# EAGLE library part HRS-6PIN (library custom)
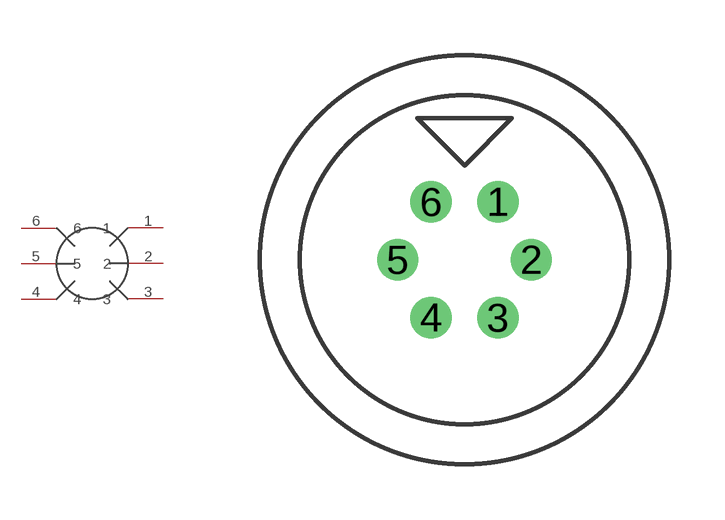
[diagram p2: symbol with the pads of HR10A-7R-6P; footprint HR10A-7R-6P]

Designator prefix -

## HRS-6PIN  [HR10A-7R-6P]
1  1
2  2
3  3
4  4
5  5
6  6

## Footprint HR10A-7R-6P (pad centres in mm)
drill 0.6: 1 0.9,1.56; 2 1.8,0; 3 0.9,-1.56; 4 -0.9,-1.56; 5 -1.8,0; 6 -0.9,1.56